# Altium footprint library WE-PPTI_1006_L10.2W6.73H4.19.PcbLib: 1 footprints
Each footprint in its own frame and in the unit in brackets; x right, y up, seen from the top. Pads: shape width x height; smd on the part's side, far side on the other; paste and mask are expansions set on the pad; w line width, h text height; cw(c..) or ccw(c..) is an arc to the next point about the centre after c.
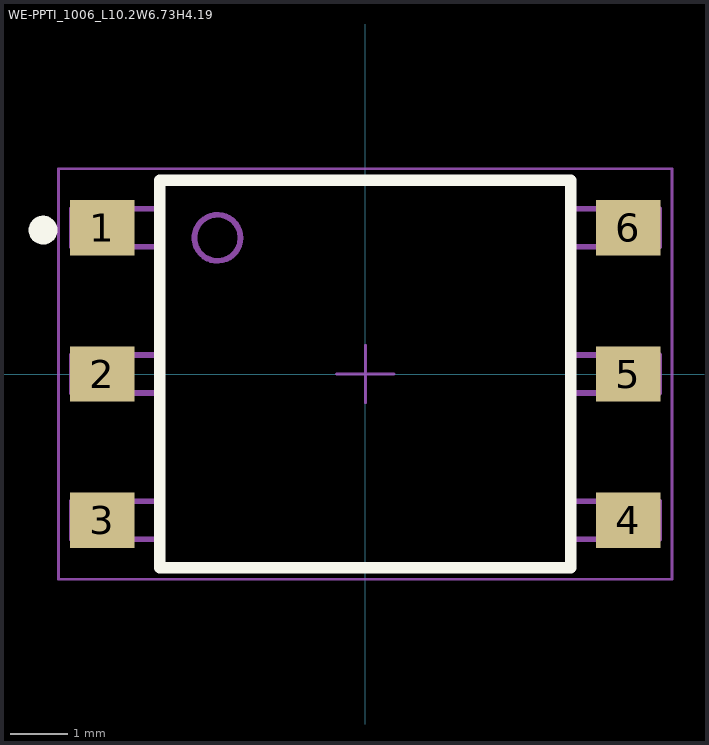
[diagram p0: the footprint, top view; thin cyan lines are the x and y axes]

## WE-PPTI_1006_L10.2W6.73H4.19 [mm] "Push-Pull Transformer, SMT, body 7.14 x 6.73mm"
height 4.19
pads (6):
  rect 1.12x0.96 smd: 1(-4.57,2.54) 2(-4.57,0) 3(-4.57,-2.54) 4(4.57,-2.54) 5(4.57,0) 6(4.57,2.54)
Top Overlay:
  circle w0.25: c-5.6,2.5 r0.125
  lines w0.2: -3.57,-3.365 -3.57,3.365 3.57,3.365 3.57,-3.365 -3.57,-3.365
Board Outline:
  text ".Designator" at -7.498,-0.5 h1.5
Mechanical 11:
  circle w0.1: c-2.57,2.365 r0.4
  lines w0.1: -3.57,-2.87 -5.1,-2.87 -5.1,-2.21 -3.57,-2.21 ; -3.57,-0.33 -5.1,-0.33 -5.1,0.33 -3.57,0.33 ; -3.57,2.21 -5.1,2.21 -5.1,2.87 -3.57,2.87 ; 3.57,-2.87 5.1,-2.87 5.1,-2.21 3.57,-2.21 ; 3.57,-0.33 5.1,-0.33 5.1,0.33 3.57,0.33 ; 3.57,2.21 5.1,2.21 5.1,2.87 3.57,2.87 ; -3.57,-3.365 3.57,-3.365 3.57,3.365 -3.57,3.365 -3.57,-3.365
Top Courtyard:
  lines w0.05: -0.5,0 0.5,0 ; 0,-0.5 0,0.5 ; -5.33,-3.565 5.33,-3.565 5.33,3.565 -5.33,3.565 -5.33,-3.565
3D body "250-1109 (rev1).STEP": height 4.06, standoff 0, extent -4.98,-3.24 4.98,3.24